# Altium footprint library TS45HE.PcbLib: 1 footprints
Each footprint in its own frame and in the unit in brackets; x right, y up, seen from the top. Pads: shape width x height; smd on the part's side, far side on the other; paste and mask are expansions set on the pad; w line width, h text height; cw(c..) or ccw(c..) is an arc to the next point about the centre after c.
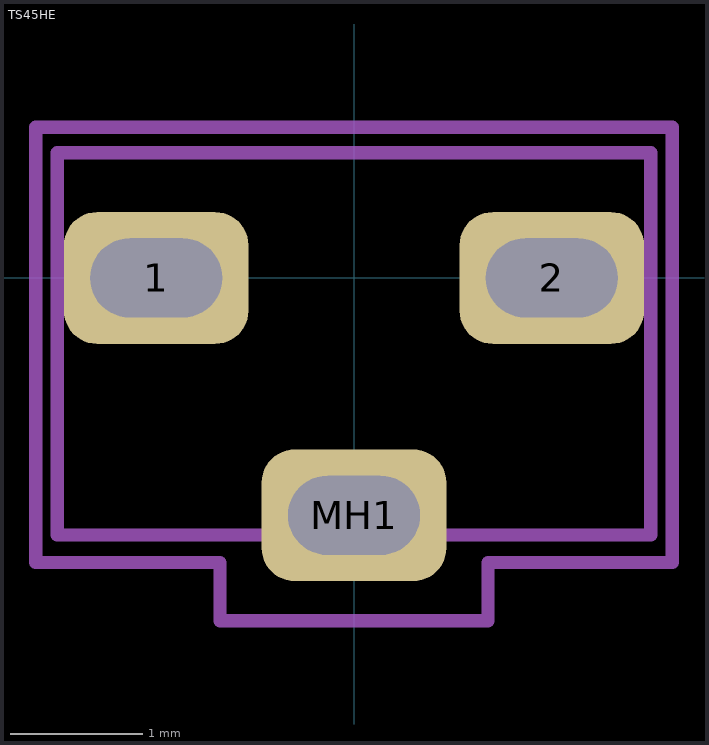
[diagram p0: the footprint, top view; thin cyan lines are the x and y axes]

## TS45HE [mm]
pads (3):
  rrect50% 1.4x1 hole 0.6 slot 1 at 0 deg: 1(-1.5,0) 2(1.5,0) MH1(0,-1.8)
Mechanical 13:
  lines w0.1: -2.25,-1.95 2.25,-1.95 2.25,0.95 -2.25,0.95 -2.25,-1.95
Mechanical 15:
  lines w0.1: -2.413,-2.159 -2.413,1.143 2.413,1.143 2.413,-2.159 1.016,-2.159 1.016,-2.6 -1.016,-2.6 -1.016,-2.159 -2.413,-2.159
3D body: height 4.5, standoff 0, extent -2.25,-1.95 2.25,0.95
3D body: height 3.25, standoff 1.25, extent -0.996,-5.75 0.996,-1.95
3D body: height 0, standoff -2, extent 1.15,-0.15 1.85,0.15
3D body: height 0, standoff -2, extent -0.35,-1.95 0.35,-1.65
3D body: height 0, standoff -2, extent -1.85,-0.15 -1.15,0.15